# EAGLE library part LCMXO2-2000 (library eecs270board)
IC CPLD 1056MC 7.24NS 144TQFP Digi-key Page <http://www.digikey.com/product-detail/en/LCMXO2-2000HC-4TG144C/220-1397-ND/2785430>
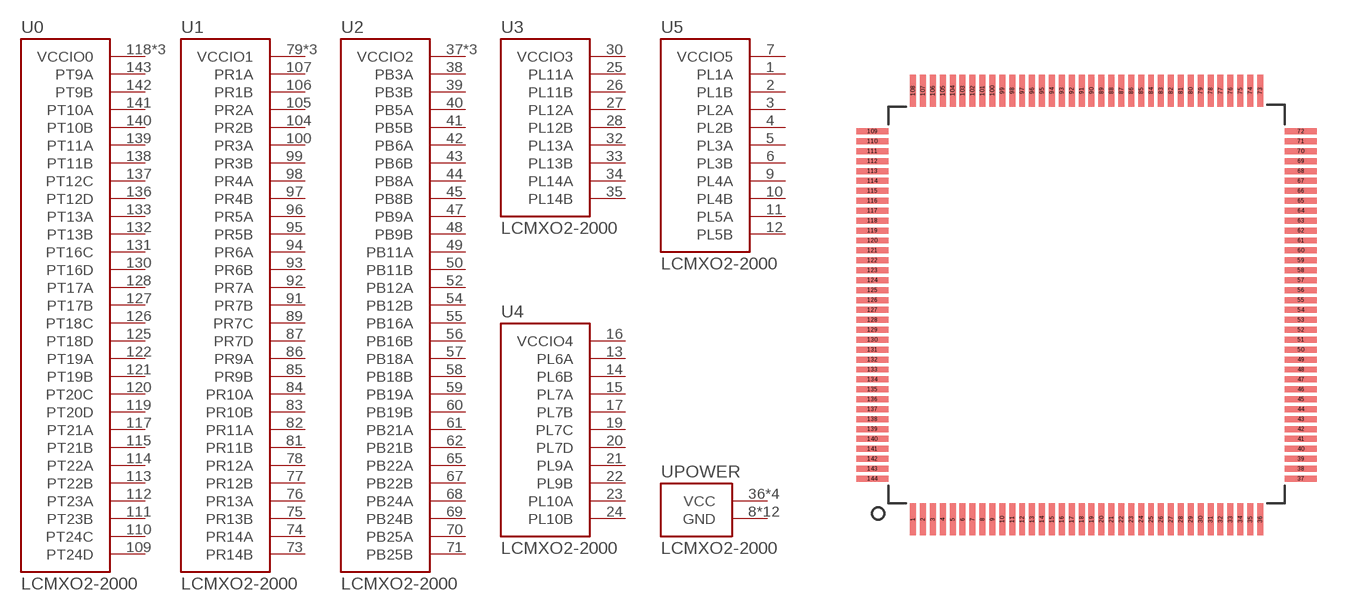
[diagram p0: symbol with the pads of TQFP-144; footprint TQFP-144]

Designator prefix U; gates POWER=LCMX02-2000-POWER 0=LCMXO2-2000-BANK0 1=LCMXO2-2000-BANK1 2=LCMXO2-2000-BANK2 3=LCMXO2-2000-BANK3 4=LCMXO2-2000-BANK4 5=LCMXO2-2000-BANK5

## LCMXO2-2000HC-4TG144C (DIST_NAME: Digi-Key; DIST_PN: 220-1397-ND; MFG_NAME: Lattice Semiconductor Corporation; MFG_PN: LCMXO2-2000HC-4TG144C)  [TQFP-144]
1  5:PL1A
2  5:PL1B
3  5:PL2A
4  5:PL2B
5  5:PL3A
6  5:PL3B
7  5:VCCIO5
8  POWER:GND
9  5:PL4A
10  5:PL4B
11  5:PL5A
12  5:PL5B
13  4:PL6A
14  4:PL6B
15  4:PL7A
16  4:VCCIO4
17  4:PL7B
18  POWER:GND
19  4:PL7C
20  4:PL7D
21  4:PL9A
22  4:PL9B
23  4:PL10A
24  4:PL10B
25  3:PL11A
26  3:PL11B
27  3:PL12A
28  3:PL12B
29  POWER:GND
30  3:VCCIO3
32  3:PL13A
33  3:PL13B
34  3:PL14A
35  3:PL14B
36  POWER:VCC
37  2:VCCIO2
38  2:PB3A
39  2:PB3B
40  2:PB5A
41  2:PB5B
42  2:PB6A
43  2:PB6B
44  2:PB8A
45  2:PB8B
46  POWER:GND
47  2:PB9A
48  2:PB9B
49  2:PB11A
50  2:PB11B
51  2:VCCIO2
52  2:PB12A
53  POWER:GND
54  2:PB12B
55  2:PB16A
56  2:PB16B
57  2:PB18A
58  2:PB18B
59  2:PB19A
60  2:PB19B
61  2:PB21A
62  2:PB21B
64  POWER:GND
65  2:PB22A
66  2:VCCIO2
67  2:PB22B
68  2:PB24A
69  2:PB24B
70  2:PB25A
71  2:PB25B
72  POWER:VCC
73  1:PR14B
74  1:PR14A
75  1:PR13B
76  1:PR13A
77  1:PR12B
78  1:PR12A
79  1:VCCIO1
80  POWER:GND
81  1:PR11B
82  1:PR11A
83  1:PR10B
84  1:PR10A
85  1:PR9B
86  1:PR9A
87  1:PR7D
88  1:VCCIO1
89  1:PR7C
90  POWER:GND
91  1:PR7B
92  1:PR7A
93  1:PR6B
94  1:PR6A
95  1:PR5B
96  1:PR5A
97  1:PR4B
98  1:PR4A
99  1:PR3B
100  1:PR3A
101  POWER:GND
102  1:VCCIO1
104  1:PR2B
105  1:PR2A
106  1:PR1B
107  1:PR1A
108  POWER:VCC
109  0:PT24D
110  0:PT24C
111  0:PT23B
112  0:PT23A
113  0:PT22B
114  0:PT22A
115  0:PT21B
116  POWER:GND
117  0:PT21A
118  0:VCCIO0
119  0:PT20D
120  0:PT20C
121  0:PT19B
122  0:PT19A
123  0:VCCIO0
124  POWER:GND
125  0:PT18D
126  0:PT18C
127  0:PT17B
128  0:PT17A
130  0:PT16D
131  0:PT16C
132  0:PT13B
133  0:PT13A
134  POWER:GND
135  0:VCCIO0
136  0:PT12D
137  0:PT12C
138  0:PT11B
139  0:PT11A
140  0:PT10B
141  0:PT10A
142  0:PT9B
143  0:PT9A
144  POWER:VCC

## Footprint TQFP-144 (pad centres in mm)
smd 0.3 x 1.6: 1 -8.75,-10.8; 2 -8.25,-10.8; 3 -7.75,-10.8; 4 -7.25,-10.8; 5 -6.75,-10.8; 6 -6.25,-10.8; 7 -5.75,-10.8; 8 -5.25,-10.8; 9 -4.75,-10.8; 10 -4.25,-10.8; 11 -3.75,-10.8; 12 -3.25,-10.8; 13 -2.75,-10.8; 14 -2.25,-10.8; 15 -1.75,-10.8; 16 -1.25,-10.8; 17 -0.75,-10.8; 18 -0.25,-10.8; 19 0.25,-10.8; 20 0.75,-10.8; 21 1.25,-10.8; 22 1.75,-10.8; 23 2.25,-10.8; 24 2.75,-10.8; 25 3.25,-10.8; 26 3.75,-10.8; 27 4.25,-10.8; 28 4.75,-10.8; 29 5.25,-10.8; 30 5.75,-10.8; 31 6.25,-10.8; 32 6.75,-10.8; 33 7.25,-10.8; 34 7.75,-10.8; 35 8.25,-10.8; 36 8.75,-10.8; 73 8.75,10.8; 74 8.25,10.8; 75 7.75,10.8; 76 7.25,10.8; 77 6.75,10.8; 78 6.25,10.8; 79 5.75,10.8; 80 5.25,10.8; 81 4.75,10.8; 82 4.25,10.8; 83 3.75,10.8; 84 3.25,10.8; 85 2.75,10.8; 86 2.25,10.8; 87 1.75,10.8; 88 1.25,10.8; 89 0.75,10.8; 90 0.25,10.8; 91 -0.25,10.8; 92 -0.75,10.8; 93 -1.25,10.8; 94 -1.75,10.8; 95 -2.25,10.8; 96 -2.75,10.8; 97 -3.25,10.8; 98 -3.75,10.8; 99 -4.25,10.8; 100 -4.75,10.8; 101 -5.25,10.8; 102 -5.75,10.8; 103 -6.25,10.8; 104 -6.75,10.8; 105 -7.25,10.8; 106 -7.75,10.8; 107 -8.25,10.8; 108 -8.75,10.8
smd 1.6 x 0.3: 37 10.8,-8.75; 38 10.8,-8.25; 39 10.8,-7.75; 40 10.8,-7.25; 41 10.8,-6.75; 42 10.8,-6.25; 43 10.8,-5.75; 44 10.8,-5.25; 45 10.8,-4.75; 46 10.8,-4.25; 47 10.8,-3.75; 48 10.8,-3.25; 49 10.8,-2.75; 50 10.8,-2.25; 51 10.8,-1.75; 52 10.8,-1.25; 53 10.8,-0.75; 54 10.8,-0.25; 55 10.8,0.25; 56 10.8,0.75; 57 10.8,1.25; 58 10.8,1.75; 59 10.8,2.25; 60 10.8,2.75; 61 10.8,3.25; 62 10.8,3.75; 63 10.8,4.25; 64 10.8,4.75; 65 10.8,5.25; 66 10.8,5.75; 67 10.8,6.25; 68 10.8,6.75; 69 10.8,7.25; 70 10.8,7.75; 71 10.8,8.25; 72 10.8,8.75; 109 -10.8,8.75; 110 -10.8,8.25; 111 -10.8,7.75; 112 -10.8,7.25; 113 -10.8,6.75; 114 -10.8,6.25; 115 -10.8,5.75; 116 -10.8,5.25; 117 -10.8,4.75; 118 -10.8,4.25; 119 -10.8,3.75; 120 -10.8,3.25; 121 -10.8,2.75; 122 -10.8,2.25; 123 -10.8,1.75; 124 -10.8,1.25; 125 -10.8,0.75; 126 -10.8,0.25; 127 -10.8,-0.25; 128 -10.8,-0.75; 129 -10.8,-1.25; 130 -10.8,-1.75; 131 -10.8,-2.25; 132 -10.8,-2.75; 133 -10.8,-3.25; 134 -10.8,-3.75; 135 -10.8,-4.25; 136 -10.8,-4.75; 137 -10.8,-5.25; 138 -10.8,-5.75; 139 -10.8,-6.25; 140 -10.8,-6.75; 141 -10.8,-7.25; 142 -10.8,-7.75; 143 -10.8,-8.25; 144 -10.8,-8.75